# Altium schematic symbol library Discrete_Crystal.SchLib: 11 symbols
Pins are listed as number, name and electrical type; pins without a type are passive.

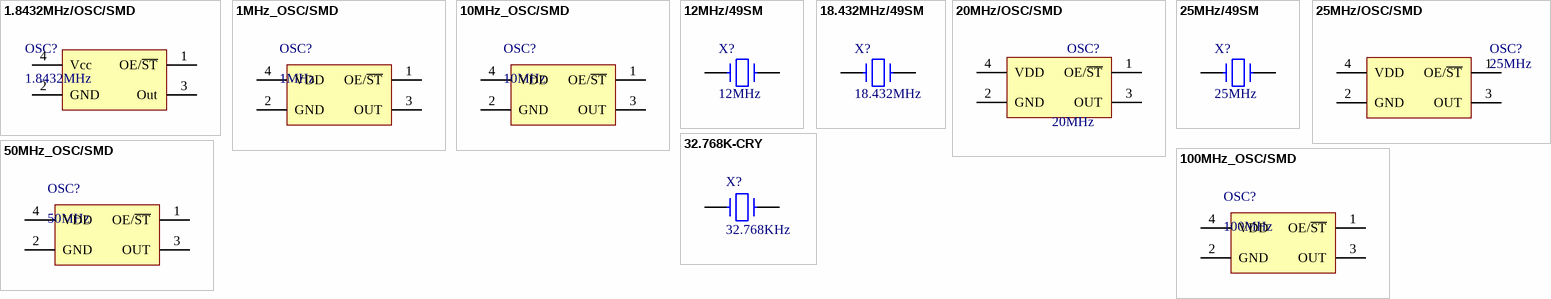
[diagram p0: symbols 1.8432MHz/OSC/SMD to 100MHz_OSC/SMD]

## 1.8432MHz/OSC/SMD
designator OSC?, comment 1.8432MHz
有源晶振,1.8432MHz, 30ppm,supply voltage:3.3V, dimension:7*5mm; Manufacturer: TAITIEN; Ordering No.: OCEMELKANF-1.843200; Name: 晶振; dimension: 7.0*5.0mm
footprint OSC7050 (晶振SMD 7.0x5.0mm)
pins: 1 OE/~{ST}, 2 GND, 3 Out, 4 Vcc

## 1MHz_OSC/SMD
designator OSC?, comment 1MHz
有源晶振,1MHz, 7x5mm; Manufacturer: Epson; 物料型号说明: 表贴7x5mm; Ordering NO.: SG8002CAPCB1MHZ; 物料替代型号: KDS,Citizen,SEIKO同型; Name: 晶振; 物料参考价格: 3.01
footprint OSC7050 (晶振SMD 7.0x5.0mm)
pins: 1 OE/~{ST}, 2 GND, 3 OUT, 4 VDD

## 10MHz_OSC/SMD
designator OSC?, comment 10MHz
有源晶振,10MHz, 7x5mm; Manufacturer: Epson; Ordering NO.: SG8002CAPCB10MHZ; 物料替代型号: KDS,Citizen,SEIKO同型; Name: 晶振
footprint OSC7050 (晶振SMD 7.0x5.0mm)
pins: 1 OE/~{ST}, 2 GND, 3 OUT, 4 VDD

## 12MHz/49SM
designator X?, comment 12MHz
通用石英晶体,12MHz,49SM; Manufacturer: KDS; 物料参考价格: 0.8; 物料型号说明: 49SM表贴晶体; Ordering NO.: 12MHz/49SM; Name: 晶体; 物料替代型号: n/a
footprint CRY13*4.8 (贴片晶振,13*4.8*4.3mm)
pins: 1, 2

## 18.432MHz/49SM
designator X?, comment 18.432MHz
通用石英晶体,18.432MHz,49SM; Manufacturer: TAITIEN; Name: 晶体; Ordering NO.: XJHEEL-18.432MHz
footprint CRY13*4.8 (贴片晶振,13*4.8*4.3mm)
pins: 1, 2

## 20MHz/OSC/SMD
designator OSC?, comment 20MHz
有源晶振,20MHz, 30ppm,supply voltage:3.3V, dimension:7*5mm; Manufacturer: TAITIEN; Ordering NO.: OCEMELJANF-20.000000; Name: 晶振
footprint OSC7050 (晶振SMD 7.0x5.0mm)
pins: 1 OE/~{ST}, 2 GND, 3 OUT, 4 VDD

## 25MHz/49SM
designator X?, comment 25MHz
通用石英晶体25MHz,49SM; Manufacturer: KDS; 物料参考价格: 0.8; 物料型号说明: 49SM表贴晶体; Ordering NO.: 25MHz/49SM; Name: 晶体; 物料替代型号: n/a
footprint CRY13*4.8 (贴片晶振,13*4.8*4.3mm)
pins: 1, 2

## 25MHz/OSC/SMD
designator OSC?, comment 25MHz
有源晶振,25MHz, 7x5mm; Name: 晶振; Price: 3.01; Ordering NO.: 25MHz
footprint OSC7050 (晶振SMD 7.0x5.0mm)
pins: 1 OE/~{ST}, 2 GND, 3 OUT, 4 VDD

## 32.768K-CRY
designator X?, comment 32.768KHz
晶体,32.768KHz,50ppm,12.5pF; Manufacturer: 泰艺; Name: 晶体; Ordering NO.: 32.768K
footprint CRY-32K (Footprint not found)
pins: 1, 2

## 50MHz_OSC/SMD
designator OSC?, comment 50MHz
有源晶振,50MHz, 7x5mm; Manufacturer: Epson; 物料型号说明: 表贴7x5mm; Ordering NO.: SG8002CAPCB50MHZ; 物料替代型号: KDS,Citizen,SEIKO同型; Name: 晶振; 物料参考价格: 3.01
footprint OSC7050 (晶振SMD 7.0x5.0mm)
pins: 1 OE/~{ST}, 2 GND, 3 OUT, 4 VDD

## 100MHz_OSC/SMD
designator OSC?, comment 100MHz
有源晶振,100MHz, 7x5mm; Manufacturer: Epson; 物料型号说明: 表贴7x5mm; Ordering NO.: SG8002CAPCB100MHZ; 物料替代型号: KDS,Citizen,SEIKO同型; Name: 晶振; 物料参考价格: 3.01
footprint OSC7050 (晶振SMD 7.0x5.0mm)
pins: 1 OE/~{ST}, 2 GND, 3 OUT, 4 VDD